# Altium footprint library LegacyTOxx.PcbLib: 110 footprints (part 2 of 7)
Each footprint in its own frame and in the unit in brackets; x right, y up, seen from the top. Pads: shape width x height; smd on the part's side, far side on the other; paste and mask are expansions set on the pad; w line width, h text height; cw(c..) or ccw(c..) is an arc to the next point about the centre after c.
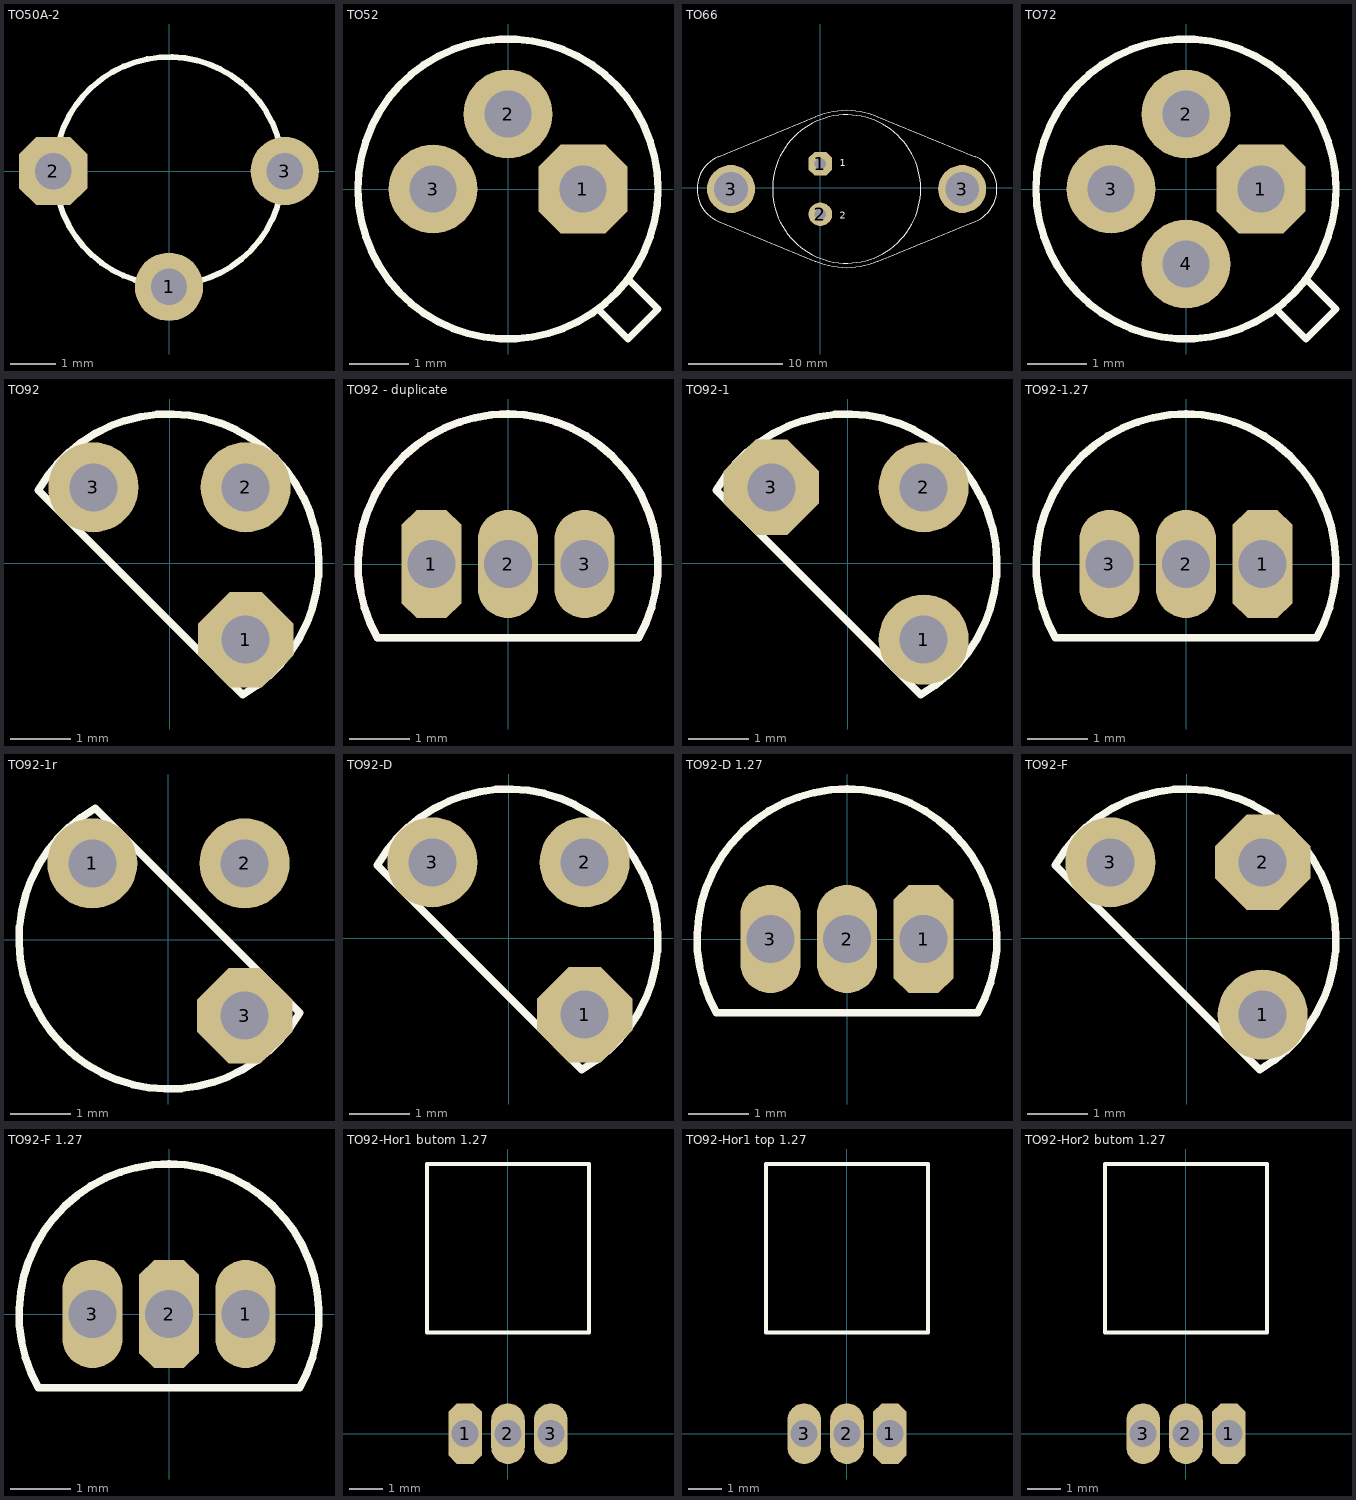
[diagram p1: the footprints below, top view; thin cyan lines are the x and y axes]

## TO50A-2 [mm]
pads (3):
  round 1.5 hole 0.8: 1(0,-2.54) 3(2.54,0)
  oct 1.5x1.5 hole 0.8: 2(-2.54,0)
TopOverlay:
  circle w0.125: c0,0 r2.502

## TO52 [mm]
pads (3):
  oct 1.5x1.5 hole 0.8: 1(1.27,0)
  round 1.5 hole 0.8: 2(0,1.27) 3(-1.27,0)
TopOverlay:
  circle w0.125: c0,0 r2.54
  lines w0.125: 1.524,-2.032 2.032,-2.54 2.54,-2.032 2.032,-1.524

## TO66 [mil]
pads (4):
  oct 98.43x98.43 hole 47.24: 1(0,100)
  round 98.43 hole 47.24: 2(0,-110)
  round 200 hole 140: 3(-372,-5) 3(590,-5)
TopOverlay:
  circle w4.92: c109,-5 r308.33
  lines w4.92: -426,-140 -21,-305 ; -425.99,-139.75 cw(c-366,-5) -425.99,129.75 ; -426,130 -21,295 ; -18.64,-305.7 ccw(c109,-5) 236.64,-305.7 ; -18.64,295.7 cw(c109,-5) 236.64,295.7 ; 239,-305 644,-140 ; 239,295 644,130 ; 643.63,-140.21 ccw(c589,-5) 643.63,130.21
  text "2" at 80,-140 h50
  text "1" at 80,80 h50

## TO72 [mm]
pads (4):
  oct 1.5x1.5 hole 0.8: 1(1.27,0)
  round 1.5 hole 0.8: 2(0,1.27) 3(-1.27,0) 4(0,-1.27)
TopOverlay:
  circle w0.125: c0,0 r2.54
  lines w0.125: 1.524,-2.032 2.032,-2.54 2.54,-2.032 2.032,-1.524

## TO92 [mm]
pads (3):
  oct 1.5x1.5 hole 0.8 rot 135: 1(1.27,-1.27)
  round 1.5 hole 0.8: 2(1.27,1.27) 3(-1.27,1.27)
TopOverlay:
  lines w0.125: -2.185,1.221 cw(c-0.009,-0.009) 1.221,-2.185 -2.185,1.221
3D body "TO-92.step": height 8, standoff -3, extent -2.395,-2.389 2.395,2.4

## TO92 - duplicate [mm]
pads (3):
  oct 1x1.8 hole 0.8: 1(-1.27,0)
  oval 1x1.8 hole 0.8: 2(0,0) 3(1.27,0)
TopOverlay:
  lines w0.125: -2.167,-1.224 cw(c0,0) 2.167,-1.224 -2.167,-1.224
Mechanical3:
  text ".Designator / .Comment" at -2.159,1.143 h1.02
Mechanical13:
  lines w0.125: -2.167,-1.224 cw(c0,0) 2.167,-1.224 -2.167,-1.224
3D body "TO-92A.step": height 8, standoff -3, extent -2.4,-1.517 2.4,2.413

## TO92-1 [mm]
pads (3):
  round 1.5 hole 0.8: 1(1.27,-1.27) 2(1.27,1.27)
  oct 1.5x1.5 hole 0.8 rot 135: 3(-1.27,1.27)
TopOverlay:
  lines w0.125: -2.185,1.221 cw(c-0.009,-0.009) 1.221,-2.185 -2.185,1.221
3D body "TO-92.step": height 8, standoff -3, extent -2.389,-2.395 2.4,2.395

## TO92-1.27 [mm]
pads (3):
  oct 1x1.8 hole 0.8: 1(1.27,0)
  oval 1x1.8 hole 0.8: 2(0,0) 3(-1.27,0)
TopOverlay:
  lines w0.125: -2.167,-1.224 cw(c0,0) 2.167,-1.224 -2.167,-1.224
3D body "TO-92A.step": height 8, standoff -3, extent -2.4,-1.517 2.4,2.413

## TO92-1r [mm]
pads (3):
  round 1.5 hole 0.8: 1(-1.27,1.27) 2(1.27,1.27)
  oct 1.5x1.5 hole 0.8 rot 135: 3(1.27,-1.27)
TopOverlay:
  lines w0.125: -1.221,2.185 ccw(c0.009,0.009) 2.185,-1.221 -1.221,2.185
3D body "TO-92.step": height 8, standoff -3, extent -2.4,-2.395 2.389,2.395

## TO92-D [mm]
pads (3):
  oct 1.5x1.5 hole 0.8 rot 135: 1(1.27,-1.27)
  round 1.5 hole 0.8: 2(1.27,1.27) 3(-1.27,1.27)
TopOverlay:
  lines w0.125: -2.185,1.221 cw(c-0.009,-0.009) 1.221,-2.185 -2.185,1.221
3D body "TO-92.step": height 8, standoff -3, extent -2.4,-2.4 2.389,2.389

## TO92-D 1.27 [mm]
pads (3):
  oct 1x1.8 hole 0.8: 1(1.27,0)
  oval 1x1.8 hole 0.8: 2(0,0) 3(-1.27,0)
TopOverlay:
  lines w0.125: -2.167,-1.224 cw(c0,0) 2.167,-1.224 -2.167,-1.224
Mechanical3:
  text ".Designator / .Comment" at -2.159,1.143 h1.02
3D body "TO-92A.step": height 8, standoff -3, extent -2.4,-1.517 2.4,2.413

## TO92-F [mm]
pads (3):
  round 1.5 hole 0.8: 1(1.27,-1.27) 3(-1.27,1.27)
  oct 1.5x1.5 hole 0.8 rot 135: 2(1.27,1.27)
TopOverlay:
  lines w0.125: -2.185,1.221 cw(c-0.009,-0.009) 1.221,-2.185 -2.185,1.221
3D body "TO-92.step": height 8, standoff -3, extent -2.4,-2.4 2.389,2.389

## TO92-F 1.27 [mm]
pads (3):
  oval 1x1.8 hole 0.8: 1(1.27,0) 3(-1.27,0)
  oct 1x1.8 hole 0.8: 2(0,0)
TopOverlay:
  lines w0.125: -2.167,-1.224 cw(c0,0) 2.167,-1.224 -2.167,-1.224
Mechanical3:
  text ".Designator / .Comment" at -2.159,1.143 h1.02
3D body "TO-92A.step": height 8, standoff -3, extent -2.413,-1.524 2.387,2.406

## TO92-Hor1 butom 1.27 [mm]
pads (3):
  oct 1x1.8 hole 0.8: 1(-1.27,0)
  oval 1x1.8 hole 0.8: 2(0,0) 3(1.27,0)
TopOverlay:
  lines w0.125: -2.4,3 -2.4,8 2.4,8 2.4,3 -2.4,3
3D body "TO92b-Hor1.STEP": height 5.34, standoff -1.27, extent -2.4,-0.22 2.4,8

## TO92-Hor1 top 1.27 [mm]
pads (3):
  oct 1x1.8 hole 0.8: 1(1.27,0)
  oval 1x1.8 hole 0.8: 2(0,0) 3(-1.27,0)
TopOverlay:
  lines w0.125: -2.4,3 -2.4,8 2.4,8 2.4,3 -2.4,3
3D body "TO92b-Hor1.STEP": height 4.07, standoff -2.54, extent -2.4,-0.22 2.4,8

## TO92-Hor2 butom 1.27 [mm]
pads (3):
  oct 1x1.8 hole 0.8: 1(1.27,0)
  oval 1x1.8 hole 0.8: 2(0,0) 3(-1.27,0)
TopOverlay:
  lines w0.125: -2.4,3 2.4,3 2.4,8 -2.4,8 -2.4,3
3D body "TO92b-Hor2.STEP": height 4.94, standoff -2.54, extent -2.4,-0.23 2.4,8